# Altium footprint library MPLibs.PcbLib: 13 footprints
Each footprint in its own frame and in the unit in brackets; x right, y up, seen from the top. Pads: shape width x height; smd on the part's side, far side on the other; paste and mask are expansions set on the pad; w line width, h text height; cw(c..) or ccw(c..) is an arc to the next point about the centre after c.
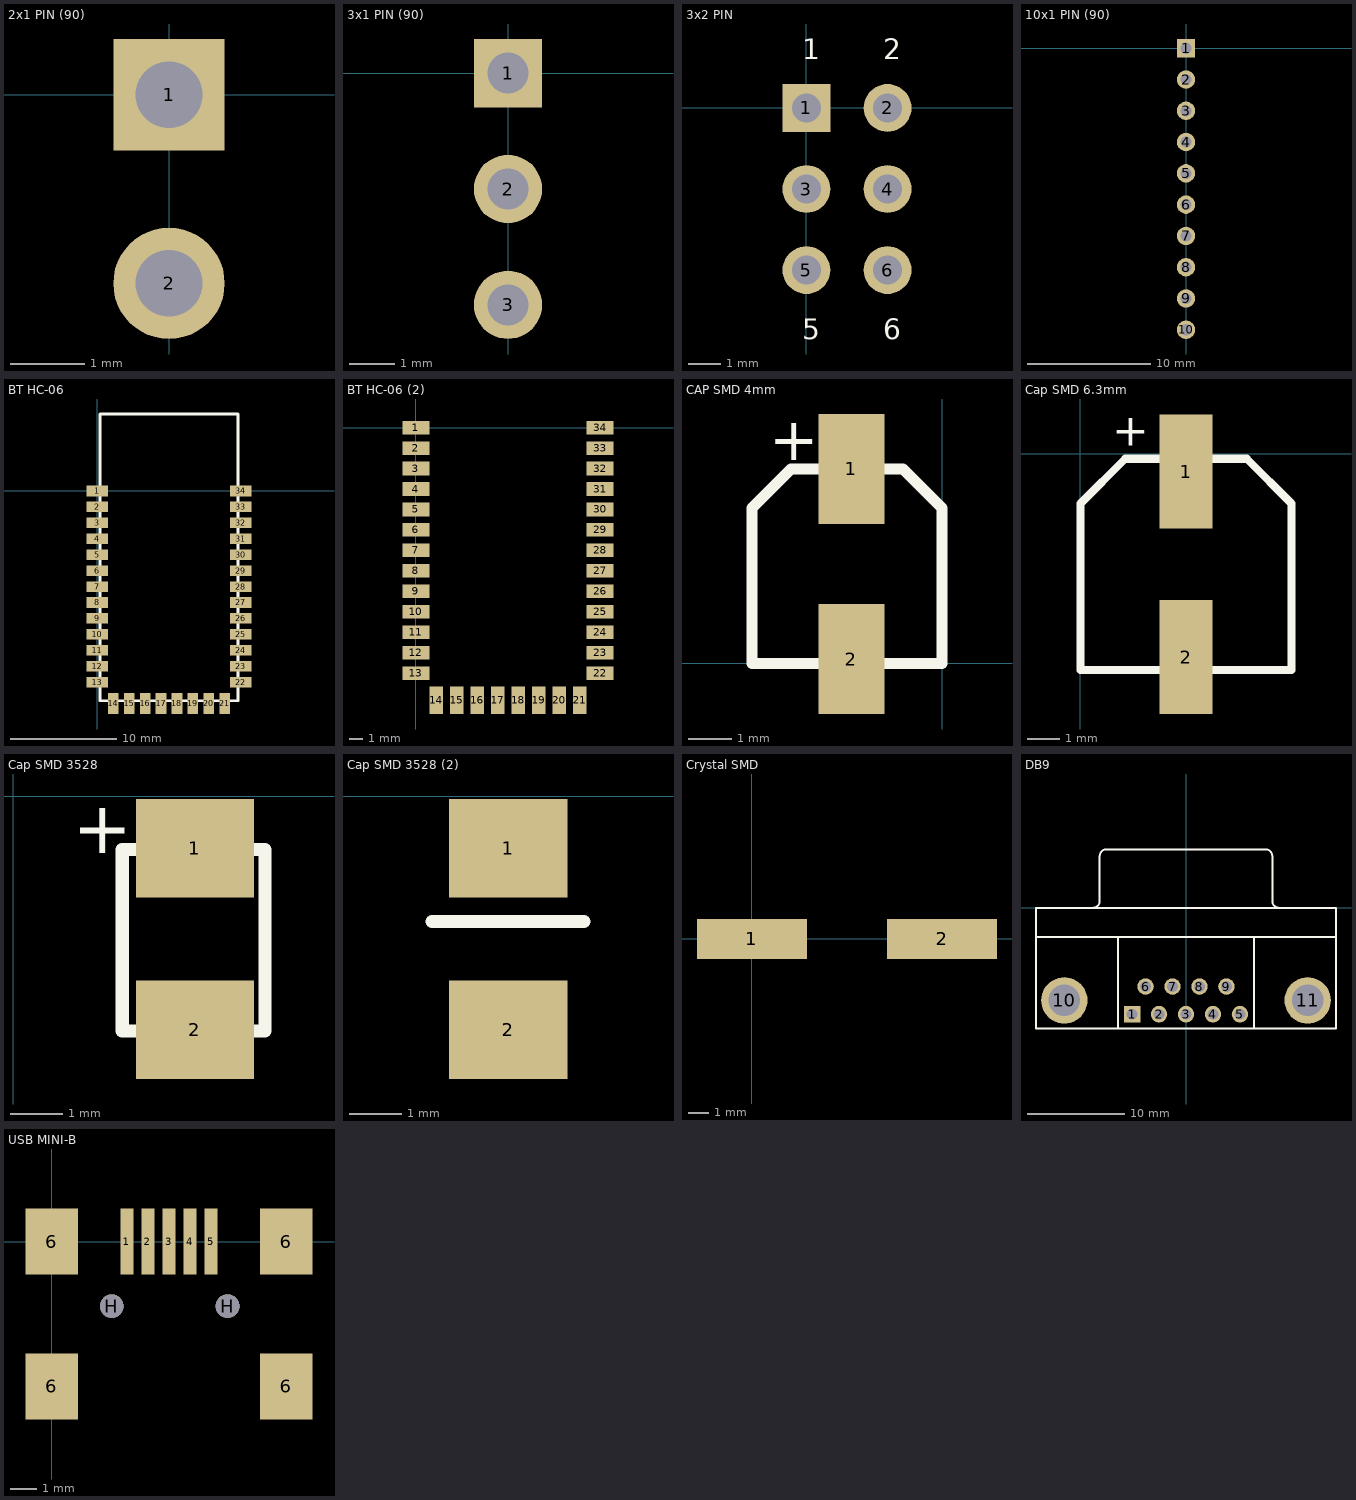
[diagram p0: the footprints below, top view; thin cyan lines are the x and y axes]

## 2x1 PIN (90) [mm]
pads (2):
  rect 1.5x1.5 hole 0.9: 1(0,0)
  round 1.5 hole 0.9: 2(0,-2.54)
3D body: height 2.54, standoff -5.73, extent -6.944,-3.81 0.381,1.27

## 3x1 PIN (90) [mm]
pads (3):
  rect 1.5x1.5 hole 0.9: 1(0,0)
  round 1.5 hole 0.9: 2(0,-2.54) 3(0,-5.08)
3D body: height 2.54, standoff -5.73, extent -6.944,-6.35 0.381,1.27

## 3x2 PIN [mm]
pads (6):
  rect 1.5x1.5 hole 0.9: 1(0,0)
  round 1.5 hole 0.9: 2(2.54,0) 3(0,-2.54) 4(2.54,-2.54) 5(0,-5.08) 6(2.54,-5.08)
Top Overlay:
  text "1" at -0.127,1.524 h0.64
  text "2" at 2.413,1.524 h0.64
  text "5" at -0.127,-7.239 h0.64
  text "6" at 2.413,-7.239 h0.64
3D body: height 10.1, standoff -1.5, extent -1.27,-6.35 3.81,1.27

## 10x1 PIN (90) [mm]
pads (10):
  rect 1.5x1.5 hole 0.9: 1(0,0)
  round 1.5 hole 0.9: 2(0,-2.54) 3(0,-5.08) 4(0,-7.62) 5(0,-10.16) 6(0,-12.7) 7(0,-15.24) 8(0,-17.78) 9(0,-20.32) 10(0,-22.86)
3D body: height 2.54, standoff -5.73, extent -6.937,-24.13 0.388,1.27

## BT HC-06 [mm]
pads (34):
  rect 2x1 smd: 1(0,0) 2(0,-1.5) 3(0,-3) 4(0,-4.5) 5(0,-6) 6(0,-7.5) 7(0,-9) 8(0,-10.5) 9(0,-12) 10(0,-13.5) 11(0,-15) 12(0,-16.5) 13(0,-18) 22(13.5,-18) 23(13.5,-16.5) 24(13.5,-15) 25(13.5,-13.5) 26(13.5,-12) 27(13.5,-10.5) 28(13.5,-9) 29(13.5,-7.5) 30(13.5,-6) 31(13.5,-4.5) 32(13.5,-3) 33(13.5,-1.5) 34(13.5,0)
  rect 1x2 smd: 14(1.5,-20) 15(3,-20) 16(4.5,-20) 17(6,-20) 18(7.5,-20) 19(9,-20) 20(10.5,-20) 21(12,-20)
Top Overlay:
  lines w0.254: 0.25,-18 0.25,-19.75 ; 1.5,-19.75 0.25,-19.75 ; 12,-19.75 13.25,-19.75 ; 0.25,-19.75 0.25,7.25 13.25,7.25 13.25,-19.75 ; 0.25,-19.75 13.25,-19.75
3D body: height 2.4, standoff -0.04, extent 0.199,-19.8 13.201,7.101

## BT HC-06 (2) [mm]
pads (34):
  rect 2x1 smd: 1(0,0) 2(0,-1.5) 3(0,-3) 4(0,-4.5) 5(0,-6) 6(0,-7.5) 7(0,-9) 8(0,-10.5) 9(0,-12) 10(0,-13.5) 11(0,-15) 12(0,-16.5) 13(0,-18) 22(13.5,-18) 23(13.5,-16.5) 24(13.5,-15) 25(13.5,-13.5) 26(13.5,-12) 27(13.5,-10.5) 28(13.5,-9) 29(13.5,-7.5) 30(13.5,-6) 31(13.5,-4.5) 32(13.5,-3) 33(13.5,-1.5) 34(13.5,0)
  rect 1x2 smd: 14(1.5,-20) 15(3,-20) 16(4.5,-20) 17(6,-20) 18(7.5,-20) 19(9,-20) 20(10.5,-20) 21(12,-20)
3D body: height 2.4, standoff -0.04, extent 0.199,-19.8 13.201,7.101

## CAP SMD 4mm [mm]
pads (2):
  rect 1.524x2.54 smd: 1(-2.1,4.5) 2(-2.1,0.1)
Top Overlay:
  lines w0.254: -4.4,0 0,0 0,3.6 -0.9,4.5 -3.5,4.5 -4.4,3.6 -4.4,0
  text "+" at -4,4.7 h1
3D body: height 3.91, standoff 0, extent -4.35,-0.043 -0.05,4.557

## Cap SMD 6.3mm [mil]
pads (2):
  rect 65x140 smd: 1(129.92,-21.65) 2(129.92,-250)
Top Overlay:
  lines w10: 0,-265.75 0,-61.02 55.12,-5.91 204.72,-5.91 259.84,-61.02 259.84,-64.96 259.84,-265.75 0,-265.75
  text "+" at 39.37,9.84 h39.37
3D body: height 153.94, standoff 0, extent 0,-273.62 259.84,1.97

## Cap SMD 3528 [mm]
pads (2):
  rect 2.28x1.9 smd: 1(3.5,-1) 2(3.5,-4.5)
Top Overlay:
  lines w0.254: 2.1,-4.525 4.85,-4.525 4.85,-1.025 2.1,-1.025 2.1,-4.525
  text "+" at 1.15,-1.1 h1
3D body: height 2.03, standoff 0, extent 2.01,-4.625 4.94,-0.925

## Cap SMD 3528 (2) [mm]
pads (2):
  rect 2.28x1.9 smd: 1(3.5,-1) 2(3.5,-4.5)
Top Overlay:
  lines w0.254: 2.032,-2.413 4.953,-2.413
3D body: height 2.03, standoff 0, extent 2.01,-4.625 4.94,-0.925

## Crystal SMD [mm]
pads (2):
  rect 5.5x2 smd: 1(0,0) 2(9.5,0)
3D body: height 4.3, standoff 0, extent -1.65,-2.415 11.15,2.415

## DB9 [mm] "DB9 Connector"
pads (11):
  rect 1.69x1.69 hole 1.09: 1(-5.54,-10.92)
  round 1.69 hole 1.09: 2(-2.77,-10.92) 3(0,-10.92) 4(2.77,-10.92) 5(5.54,-10.92) 6(-4.155,-8.08) 7(-1.385,-8.08) 8(1.385,-8.08) 9(4.155,-8.08)
  round 4.76 hole 3.26: 10(-12.495,-9.5) 11(12.495,-9.5)
Top Overlay:
  lines w0.2: -15.4,-3 15.4,-3 ; -9.56,0.005 ccw(c-9.56,0.7) -8.865,0.7 -8.865,5.3 ; -8.86,5.305 cw(c-8.165,5.305) -8.165,6 8.165,6 cw(c8.165,5.305) 8.86,5.305 ; -7,-12.4 -7,-3 ; 7,-12.4 7,-3 ; 8.865,5.3 8.865,0.7 ccw(c9.56,0.7) 9.56,0.005 ; -15.4,-12.4 -15.4,0 15.4,0 15.4,-12.4 -15.4,-12.4
3D body: height 12.5, standoff -3.8, extent -15.405,-13.208 15.405,5.992

## USB MINI-B [mm]
pads (11):
  rect 0.5x2.5 smd: 1(2.85,0) 2(3.65,0) 3(4.45,0) 4(5.25,0) 5(6.05,0)
  rect 2x2.5 smd: 6(0,-5.5) 6(0,0) 6(8.9,-5.5) 6(8.9,0)
  round 0.9 hole 0.9: H(2.275,-2.45) H(6.675,-2.45)
Top Overlay:
  text "." at 1.975,1.075 h1.52
3D body: height 4.14, standoff -0.95, extent -0.5,-8.35 9.4,0.85